# Altium schematic symbol library kmilo17pet-LT_OpAmp_LT1000.SchLib: 2280 symbols (part 17 of 79)
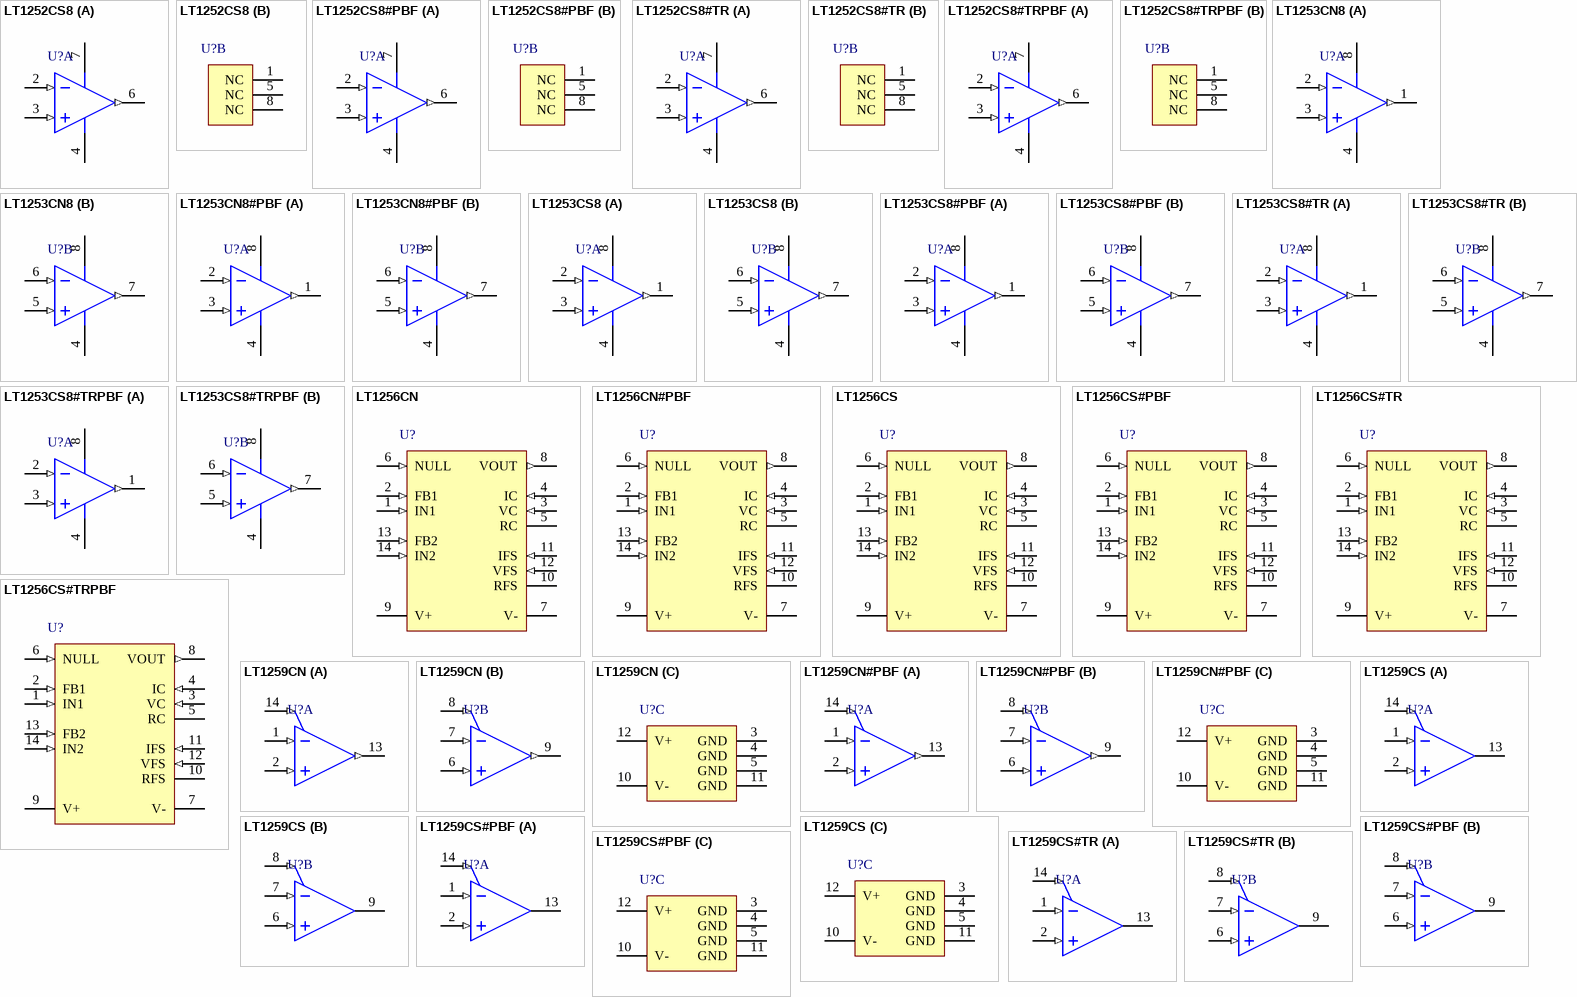
[diagram p121: symbols LT1252CS8 to LT1259CS#TR]

## LT1252CS8#TRPBF
designator U?
Single Channel, High voltage Video Operational Amplifier, 250 MHz Typical GBW, 250 V/us Typical SR, 4 to 28 V, 8-Pin SOIC (S8-8), Commercial, Pb-Free, Reel; Linear Technology Part Number: LT1252; Manufacturer: Linear Technology; PartNumber: LT1252CS8#TRPBF; Channels (#): 1; GBW (MHz) Typical: 250; Is (mA) Typical: 8.5; Vos (mV) Typical: 5; Vs Max (V): 28; Vs Min (V): 4; DatasheetVersion: Rev. A; PackageVersion: Rev G; PackageReference: LT-S8-8; PackageDescription: 8-Pin Plastic Small Outline, Body 4.9 x 3.9 mm, Pitch 1.27 mm; Supplier 1: Digi-Key; Supplier Part Number 1: LT1252CS8#TRPBF-ND; Packing: Reel; RoHS: Pb-Free; SR (V/us) Typical: 250; Type: CFA; Mounting Technology: Surface Mount; ComponentLink1Description: Manufacturer URL; ComponentLink1URL: http://www.linear.com/; ComponentLink2Description: Datasheet; ComponentLink2URL: http://cds.linear.com/docs/en/datasheet/lt1252.pdf; ComponentLink3Description: Package Specification; ComponentLink3URL: http://cds.linear.com/docs/en/packaging/05081610_G_SO8.pdf
footprint LT-S8-8_N (SOIC, 8-Leads, Body 4.9x3.9mm, Pitch 1.27mm, IPC Medium Density)
footprint LT-S8-8_L (SOIC, 8-Leads, Body 4.9x3.9mm, Pitch 1.27mm, IPC High Density)
footprint LT-S8-8_M (SOIC, 8-Leads, Body 4.9x3.9mm, Pitch 1.27mm, IPC Low Density)
part A pins: 2 -IN (in), 3 +IN (in), 4 V- (power), 6 OUT (out), 7 V+ (power)
part B pins: 1 NC (power), 5 NC (power), 8 NC (power)

## LT1253CN8
designator U?
Dual Channel, High voltage Video Operational Amplifier, 250 MHz Typical GBW, 250 V/us Typical SR, 4 to 28 V, 8-Pin DIP (N8-8), Commercial; Linear Technology Part Number: LT1253; Manufacturer: Linear Technology; PartNumber: LT1253CN8; Channels (#): 2; GBW (MHz) Typical: 250; Is (mA) Typical: 6; Vos (mV) Typical: 5; Vs Max (V): 28; Vs Min (V): 4; DatasheetVersion: Rev. 0; PackageVersion: Rev I; PackageReference: LT-N8-8; PackageDescription: 8-Lead PDIP, Body 10.16 x 6.48 mm, Pitch 2.54 mm; Supplier 1: Digi-Key; Supplier Part Number 1: LT1253CN8-ND; SR (V/us) Typical: 250; Type: CFA; Mounting Technology: Surface Mount; ComponentLink1Description: Manufacturer URL; ComponentLink1URL: http://www.linear.com/; ComponentLink2Description: Datasheet; ComponentLink2URL: http://cds.linear.com/docs/en/datasheet/lt1253.pdf; ComponentLink3Description: Package Specification; ComponentLink3URL: http://cds.linear.com/docs/en/packaging/05081510_I_N8.pdf
footprint LT-N8-8 (DIP, 8-Leads, Body 10.16x6.48mm, Pitch 2.54mm)
pins on every part: 4 V- (power), 8 V+ (power)
part A pins: 1 OUT A (out), 2 -IN A (in), 3 +IN A (in)
part B pins: 5 +IN B (in), 6 -IN B (in), 7 OUT B (out)

## LT1253CN8#PBF
designator U?
Dual Channel, High voltage Video Operational Amplifier, 250 MHz Typical GBW, 250 V/us Typical SR, 4 to 28 V, 8-Pin DIP (N8-8), Commercial, Pb-Free; Linear Technology Part Number: LT1253; Manufacturer: Linear Technology; PartNumber: LT1253CN8#PBF; Channels (#): 2; GBW (MHz) Typical: 250; Is (mA) Typical: 6; Vos (mV) Typical: 5; Vs Max (V): 28; Vs Min (V): 4; DatasheetVersion: Rev. 0; PackageVersion: Rev I; PackageReference: LT-N8-8; PackageDescription: 8-Lead PDIP, Body 10.16 x 6.48 mm, Pitch 2.54 mm; Supplier 1: Digi-Key; Supplier Part Number 1: LT1253CN8#PBF-ND; Supplier 2: Newark; Supplier Part Number 2: 57M3050; RoHS: Pb-Free; SR (V/us) Typical: 250; Type: CFA; Mounting Technology: Through Hole; ComponentLink1Description: Manufacturer URL; ComponentLink1URL: http://www.linear.com/; ComponentLink2Description: Datasheet; ComponentLink2URL: http://cds.linear.com/docs/en/datasheet/lt1253.pdf; ComponentLink3Description: Package Specification; ComponentLink3URL: http://cds.linear.com/docs/en/packaging/05081510_I_N8.pdf
footprint LT-N8-8 (DIP, 8-Leads, Body 10.16x6.48mm, Pitch 2.54mm)
pins on every part: 4 V- (power), 8 V+ (power)
part A pins: 1 OUT A (out), 2 -IN A (in), 3 +IN A (in)
part B pins: 5 +IN B (in), 6 -IN B (in), 7 OUT B (out)

## LT1253CS8
designator U?
Dual Channel, High voltage Video Operational Amplifier, 250 MHz Typical GBW, 250 V/us Typical SR, 4 to 28 V, 8-Pin SOIC (S8-8), Commercial; Linear Technology Part Number: LT1253; Manufacturer: Linear Technology; PartNumber: LT1253CS8; Channels (#): 2; GBW (MHz) Typical: 250; Is (mA) Typical: 6; Vos (mV) Typical: 5; Vs Max (V): 28; Vs Min (V): 4; DatasheetVersion: Rev. 0; PackageVersion: Rev G; PackageReference: LT-S8-8; PackageDescription: 8-Pin Plastic Small Outline, Body 4.9 x 3.9 mm, Pitch 1.27 mm; Supplier 1: Digi-Key; Supplier Part Number 1: LT1253CS8-ND; SR (V/us) Typical: 250; Type: CFA; Mounting Technology: Surface Mount; ComponentLink1Description: Manufacturer URL; ComponentLink1URL: http://www.linear.com/; ComponentLink2Description: Datasheet; ComponentLink2URL: http://cds.linear.com/docs/en/datasheet/lt1253.pdf; ComponentLink3Description: Package Specification; ComponentLink3URL: http://cds.linear.com/docs/en/packaging/05081610_G_SO8.pdf
footprint LT-S8-8_N (SOIC, 8-Leads, Body 4.9x3.9mm, Pitch 1.27mm, IPC Medium Density)
footprint LT-S8-8_L (SOIC, 8-Leads, Body 4.9x3.9mm, Pitch 1.27mm, IPC High Density)
footprint LT-S8-8_M (SOIC, 8-Leads, Body 4.9x3.9mm, Pitch 1.27mm, IPC Low Density)
pins on every part: 4 V- (power), 8 V+ (power)
part A pins: 1 OUT A (out), 2 -IN A (in), 3 +IN A (in)
part B pins: 5 +IN B (in), 6 -IN B (in), 7 OUT B (out)

## LT1253CS8#PBF
designator U?
Dual Channel, High voltage Video Operational Amplifier, 250 MHz Typical GBW, 250 V/us Typical SR, 4 to 28 V, 8-Pin SOIC (S8-8), Commercial, Pb-Free; Linear Technology Part Number: LT1253; Manufacturer: Linear Technology; PartNumber: LT1253CS8#PBF; Channels (#): 2; GBW (MHz) Typical: 250; Is (mA) Typical: 6; Vos (mV) Typical: 5; Vs Max (V): 28; Vs Min (V): 4; DatasheetVersion: Rev. 0; PackageVersion: Rev G; PackageReference: LT-S8-8; PackageDescription: 8-Pin Plastic Small Outline, Body 4.9 x 3.9 mm, Pitch 1.27 mm; Supplier 1: Digi-Key; Supplier Part Number 1: LT1253CS8#PBF-ND; Supplier 2: Farnell; Supplier Part Number 2: 1330629; Supplier 3: Newark; Supplier Part Number 3: 57M3052; RoHS: Pb-Free; SR (V/us) Typical: 250; Type: CFA; Mounting Technology: Surface Mount; ComponentLink1Description: Manufacturer URL; ComponentLink1URL: http://www.linear.com/; ComponentLink2Description: Datasheet; ComponentLink2URL: http://cds.linear.com/docs/en/datasheet/lt1253.pdf; ComponentLink3Description: Package Specification; ComponentLink3URL: http://cds.linear.com/docs/en/packaging/05081610_G_SO8.pdf
footprint LT-S8-8_N (SOIC, 8-Leads, Body 4.9x3.9mm, Pitch 1.27mm, IPC Medium Density)
footprint LT-S8-8_L (SOIC, 8-Leads, Body 4.9x3.9mm, Pitch 1.27mm, IPC High Density)
footprint LT-S8-8_M (SOIC, 8-Leads, Body 4.9x3.9mm, Pitch 1.27mm, IPC Low Density)
pins on every part: 4 V- (power), 8 V+ (power)
part A pins: 1 OUT A (out), 2 -IN A (in), 3 +IN A (in)
part B pins: 5 +IN B (in), 6 -IN B (in), 7 OUT B (out)

## LT1253CS8#TR
designator U?
Dual Channel, High voltage Video Operational Amplifier, 250 MHz Typical GBW, 250 V/us Typical SR, 4 to 28 V, 8-Pin SOIC (S8-8), Commercial, Reel; Linear Technology Part Number: LT1253; Manufacturer: Linear Technology; PartNumber: LT1253CS8#TR; Channels (#): 2; GBW (MHz) Typical: 250; Is (mA) Typical: 6; Vos (mV) Typical: 5; Vs Max (V): 28; Vs Min (V): 4; DatasheetVersion: Rev. 0; PackageVersion: Rev G; PackageReference: LT-S8-8; PackageDescription: 8-Pin Plastic Small Outline, Body 4.9 x 3.9 mm, Pitch 1.27 mm; Supplier 1: Digi-Key; Supplier Part Number 1: LT1253CS8#TR-ND; Packing: Reel; SR (V/us) Typical: 250; Type: CFA; Mounting Technology: Surface Mount; ComponentLink1Description: Manufacturer URL; ComponentLink1URL: http://www.linear.com/; ComponentLink2Description: Datasheet; ComponentLink2URL: http://cds.linear.com/docs/en/datasheet/lt1253.pdf; ComponentLink3Description: Package Specification; ComponentLink3URL: http://cds.linear.com/docs/en/packaging/05081610_G_SO8.pdf
footprint LT-S8-8_N (SOIC, 8-Leads, Body 4.9x3.9mm, Pitch 1.27mm, IPC Medium Density)
footprint LT-S8-8_L (SOIC, 8-Leads, Body 4.9x3.9mm, Pitch 1.27mm, IPC High Density)
footprint LT-S8-8_M (SOIC, 8-Leads, Body 4.9x3.9mm, Pitch 1.27mm, IPC Low Density)
pins on every part: 4 V- (power), 8 V+ (power)
part A pins: 1 OUT A (out), 2 -IN A (in), 3 +IN A (in)
part B pins: 5 +IN B (in), 6 -IN B (in), 7 OUT B (out)

## LT1253CS8#TRPBF
designator U?
Dual Channel, High voltage Video Operational Amplifier, 250 MHz Typical GBW, 250 V/us Typical SR, 4 to 28 V, 8-Pin SOIC (S8-8), Commercial, Pb-Free, Reel; Linear Technology Part Number: LT1253; Manufacturer: Linear Technology; PartNumber: LT1253CS8#TRPBF; Channels (#): 2; GBW (MHz) Typical: 250; Is (mA) Typical: 6; Vos (mV) Typical: 5; Vs Max (V): 28; Vs Min (V): 4; DatasheetVersion: Rev. 0; PackageVersion: Rev G; PackageReference: LT-S8-8; PackageDescription: 8-Pin Plastic Small Outline, Body 4.9 x 3.9 mm, Pitch 1.27 mm; Supplier 1: Digi-Key; Supplier Part Number 1: LT1253CS8#TRPBF-ND; Packing: Reel; RoHS: Pb-Free; SR (V/us) Typical: 250; Type: CFA; Mounting Technology: Surface Mount; ComponentLink1Description: Manufacturer URL; ComponentLink1URL: http://www.linear.com/; ComponentLink2Description: Datasheet; ComponentLink2URL: http://cds.linear.com/docs/en/datasheet/lt1253.pdf; ComponentLink3Description: Package Specification; ComponentLink3URL: http://cds.linear.com/docs/en/packaging/05081610_G_SO8.pdf
footprint LT-S8-8_N (SOIC, 8-Leads, Body 4.9x3.9mm, Pitch 1.27mm, IPC Medium Density)
footprint LT-S8-8_L (SOIC, 8-Leads, Body 4.9x3.9mm, Pitch 1.27mm, IPC High Density)
footprint LT-S8-8_M (SOIC, 8-Leads, Body 4.9x3.9mm, Pitch 1.27mm, IPC Low Density)
pins on every part: 4 V- (power), 8 V+ (power)
part A pins: 1 OUT A (out), 2 -IN A (in), 3 +IN A (in)
part B pins: 5 +IN B (in), 6 -IN B (in), 7 OUT B (out)

## LT1256CN
designator U?
Single Channel, Video Fader Control Operational Amplifier, 40 MHz Typical GBW, 300 V/us Typical SR, 5 to 36 V, 14-Pin DIP (N-14), Commerical; Linear Technology Part Number: LT1256; Manufacturer: Linear Technology; PartNumber: LT1256CN; Channels (#): 1; GBW (MHz) Typical: 40; Is (mA) Typical: 13.5; SR (V/us) Typical: 300; Vos (mV) Typical: 2; Vs Max (V): 36; Vs Min (V): 5; DatasheetVersion: Rev. A; PackageVersion: Rev I; PackageReference: LT-N-14; PackageDescription: 14-Lead PDIP, Body 19.558 x 6.477 mm, Pitch 2.54 mm; Supplier 1: Digi-Key; Supplier Part Number 1: LT1256CN-ND; Type: CFA; Mounting Technology: Through Hole; ComponentLink1Description: Manufacturer URL; ComponentLink1URL: http://www.linear.com/; ComponentLink2Description: Datasheet; ComponentLink2URL: http://cds.linear.com/docs/en/datasheet/12516fa.pdf; ComponentLink3Description: Package Specification; ComponentLink3URL: http://cds.linear.com/docs/en/packaging/05081510_I_N14.pdf
footprint LT-N-14 (DIP, 14-Leads, Body 19.558x6.477mm, Pitch 2.54mm)
pins: 1 IN1 (in), 2 FB1 (in), 3 VC (in), 4 IC (in), 5 RC, 6 NULL (in), 7 V- (power), 8 VOUT (out), 9 V+ (power), 10 RFS, 11 IFS (in), 12 VFS (in), 13 FB2 (in), 14 IN2 (in)

## LT1256CN#PBF
designator U?
Single Channel, Video Fader Control Operational Amplifier, 40 MHz Typical GBW, 300 V/us Typical SR, 5 to 36 V, 14-Pin DIP (N-14), Commerical, Pb-Free; Linear Technology Part Number: LT1256; Manufacturer: Linear Technology; PartNumber: LT1256CN#PBF; Channels (#): 1; GBW (MHz) Typical: 40; Is (mA) Typical: 13.5; SR (V/us) Typical: 300; Vos (mV) Typical: 2; Vs Max (V): 36; Vs Min (V): 5; DatasheetVersion: Rev. A; PackageVersion: Rev I; PackageReference: LT-N-14; PackageDescription: 14-Lead PDIP, Body 19.558 x 6.477 mm, Pitch 2.54 mm; Supplier 1: Digi-Key; Supplier Part Number 1: LT1256CN#PBF-ND; RoHS: Pb-Free; Type: CFA; Mounting Technology: Through Hole; ComponentLink1Description: Manufacturer URL; ComponentLink1URL: http://www.linear.com/; ComponentLink2Description: Datasheet; ComponentLink2URL: http://cds.linear.com/docs/en/datasheet/12516fa.pdf; ComponentLink3Description: Package Specification; ComponentLink3URL: http://cds.linear.com/docs/en/packaging/05081510_I_N14.pdf
footprint LT-N-14 (DIP, 14-Leads, Body 19.558x6.477mm, Pitch 2.54mm)
pins: 1 IN1 (in), 2 FB1 (in), 3 VC (in), 4 IC (in), 5 RC, 6 NULL (in), 7 V- (power), 8 VOUT (out), 9 V+ (power), 10 RFS, 11 IFS (in), 12 VFS (in), 13 FB2 (in), 14 IN2 (in)

## LT1256CS
designator U?
Single Channel, Video Fader Control Operational Amplifier, 40 MHz Typical GBW, 300 V/us Typical SR, 5 to 36 V, 14-Pin SOIC (S-14), Commerical; Linear Technology Part Number: LT1256; Manufacturer: Linear Technology; PartNumber: LT1256CS; Channels (#): 1; GBW (MHz) Typical: 40; Is (mA) Typical: 13.5; SR (V/us) Typical: 300; Vos (mV) Typical: 2; Vs Max (V): 36; Vs Min (V): 5; DatasheetVersion: Rev. A; PackageVersion: Rev G; PackageReference: LT-S-14; PackageDescription: 14-Lead Plastic Small Outline, Body 8.65 x 3.90 mm, Pitch 1.27 mm; Supplier 1: Digi-Key; Supplier Part Number 1: LT1256CS-ND; Supplier 2: Newark; Supplier Part Number 2: 57M3063; Type: CFA; Mounting Technology: Surface Mount; ComponentLink1Description: Manufacturer URL; ComponentLink1URL: http://www.linear.com/; ComponentLink2Description: Datasheet; ComponentLink2URL: http://cds.linear.com/docs/en/datasheet/12516fa.pdf; ComponentLink3Description: Package Specification; ComponentLink3URL: http://cds.linear.com/docs/en/packaging/05081610_G_S14.pdf
footprint LT-S-14_N (SOIC, 14-Leads, Body 8.65x3.90mm, Pitch 1.27mm, IPC Medium Density)
footprint LT-S-14_L (SOIC, 14-Leads, Body 8.65x3.90mm, Pitch 1.27mm, IPC High Density)
footprint LT-S-14_M (SOIC, 14-Leads, Body 8.65x3.90mm, Pitch 1.27mm, IPC Low Density)
pins: 1 IN1 (in) "first noninverting input", 2 FB1 (in) "first inverting input", 3 VC (in) "control voltage input", 4 IC (in) "control current input", 5 RC "control resistor, RC", 6 NULL (in) "null input", 7 V- (power) "negative supply", 8 VOUT (out) "output", 9 V+ (power) "positive supply", 10 RFS "full scale resistor, RFS", 11 IFS (in) "full scale current input", 12 VFS (in) "full scale voltage input", 13 FB2 (in) "second inverting input", 14 IN2 (in) "second noninverting input"

## LT1256CS#PBF
designator U?
Single Channel, Video Fader Control Operational Amplifier, 40 MHz Typical GBW, 300 V/us Typical SR, 5 to 36 V, 14-Pin SOIC (S-14), Commerical, Pb-Free; Linear Technology Part Number: LT1256; Manufacturer: Linear Technology; PartNumber: LT1256CS#PBF; Channels (#): 1; GBW (MHz) Typical: 40; Is (mA) Typical: 13.5; SR (V/us) Typical: 300; Vos (mV) Typical: 2; Vs Max (V): 36; Vs Min (V): 5; DatasheetVersion: Rev. A; PackageVersion: Rev G; PackageReference: LT-S-14; PackageDescription: 14-Lead Plastic Small Outline, Body 8.65 x 3.90 mm, Pitch 1.27 mm; Supplier 1: Digi-Key; Supplier Part Number 1: LT1256CS#PBF-ND; Supplier 2: Farnell; Supplier Part Number 2: 2238149; Supplier 3: Newark; Supplier Part Number 3: 57M3064; RoHS: Pb-Free; Type: CFA; Mounting Technology: Surface Mount; ComponentLink1Description: Manufacturer URL; ComponentLink1URL: http://www.linear.com/; ComponentLink2Description: Datasheet; ComponentLink2URL: http://cds.linear.com/docs/en/datasheet/12516fa.pdf; ComponentLink3Description: Package Specification; ComponentLink3URL: http://cds.linear.com/docs/en/packaging/05081610_G_S14.pdf
footprint LT-S-14_N (SOIC, 14-Leads, Body 8.65x3.90mm, Pitch 1.27mm, IPC Medium Density)
footprint LT-S-14_L (SOIC, 14-Leads, Body 8.65x3.90mm, Pitch 1.27mm, IPC High Density)
footprint LT-S-14_M (SOIC, 14-Leads, Body 8.65x3.90mm, Pitch 1.27mm, IPC Low Density)
pins: 1 IN1 (in) "first noninverting input", 2 FB1 (in) "first inverting input", 3 VC (in) "control voltage input", 4 IC (in) "control current input", 5 RC "control resistor, RC", 6 NULL (in) "null input", 7 V- (power) "negative supply", 8 VOUT (out) "output", 9 V+ (power) "positive supply", 10 RFS "full scale resistor, RFS", 11 IFS (in) "full scale current input", 12 VFS (in) "full scale voltage input", 13 FB2 (in) "second inverting input", 14 IN2 (in) "second noninverting input"

## LT1256CS#TR
designator U?
Single Channel, Video Fader Control Operational Amplifier, 40 MHz Typical GBW, 300 V/us Typical SR, 5 to 36 V, 14-Pin SOIC (S-14), Commerical, Reel; Linear Technology Part Number: LT1256; Manufacturer: Linear Technology; PartNumber: LT1256CS#TR; Channels (#): 1; GBW (MHz) Typical: 40; Is (mA) Typical: 13.5; SR (V/us) Typical: 300; Vos (mV) Typical: 2; Vs Max (V): 36; Vs Min (V): 5; DatasheetVersion: Rev. A; PackageVersion: Rev G; PackageReference: LT-S-14; PackageDescription: 14-Lead Plastic Small Outline, Body 8.65 x 3.90 mm, Pitch 1.27 mm; Supplier 1: Digi-Key; Supplier Part Number 1: LT1256CS#TR-ND; Packing: Reel; Type: CFA; Mounting Technology: Surface Mount; ComponentLink1Description: Manufacturer URL; ComponentLink1URL: http://www.linear.com/; ComponentLink2Description: Datasheet; ComponentLink2URL: http://cds.linear.com/docs/en/datasheet/12516fa.pdf; ComponentLink3Description: Package Specification; ComponentLink3URL: http://cds.linear.com/docs/en/packaging/05081610_G_S14.pdf
footprint LT-S-14_N (SOIC, 14-Leads, Body 8.65x3.90mm, Pitch 1.27mm, IPC Medium Density)
footprint LT-S-14_L (SOIC, 14-Leads, Body 8.65x3.90mm, Pitch 1.27mm, IPC High Density)
footprint LT-S-14_M (SOIC, 14-Leads, Body 8.65x3.90mm, Pitch 1.27mm, IPC Low Density)
pins: 1 IN1 (in) "first noninverting input", 2 FB1 (in) "first inverting input", 3 VC (in) "control voltage input", 4 IC (in) "control current input", 5 RC "control resistor, RC", 6 NULL (in) "null input", 7 V- (power) "negative supply", 8 VOUT (out) "output", 9 V+ (power) "positive supply", 10 RFS "full scale resistor, RFS", 11 IFS (in) "full scale current input", 12 VFS (in) "full scale voltage input", 13 FB2 (in) "second inverting input", 14 IN2 (in) "second noninverting input"

## LT1256CS#TRPBF
designator U?
Single Channel, Video Fader Control Operational Amplifier, 40 MHz Typical GBW, 300 V/us Typical SR, 5 to 36 V, 14-Pin SOIC (S-14), Commerical, Pb-Free, Reel; Linear Technology Part Number: LT1256; Manufacturer: Linear Technology; PartNumber: LT1256CS#TRPBF; Channels (#): 1; GBW (MHz) Typical: 40; Is (mA) Typical: 13.5; SR (V/us) Typical: 300; Vos (mV) Typical: 2; Vs Max (V): 36; Vs Min (V): 5; DatasheetVersion: Rev. A; PackageVersion: Rev G; PackageReference: LT-S-14; PackageDescription: 14-Lead Plastic Small Outline, Body 8.65 x 3.90 mm, Pitch 1.27 mm; Supplier 1: Digi-Key; Supplier Part Number 1: LT1256CS#TRPBF-ND; Packing: Reel; RoHS: Pb-Free; Type: CFA; Mounting Technology: Surface Mount; ComponentLink1Description: Manufacturer URL; ComponentLink1URL: http://www.linear.com/; ComponentLink2Description: Datasheet; ComponentLink2URL: http://cds.linear.com/docs/en/datasheet/12516fa.pdf; ComponentLink3Description: Package Specification; ComponentLink3URL: http://cds.linear.com/docs/en/packaging/05081610_G_S14.pdf
footprint LT-S-14_N (SOIC, 14-Leads, Body 8.65x3.90mm, Pitch 1.27mm, IPC Medium Density)
footprint LT-S-14_L (SOIC, 14-Leads, Body 8.65x3.90mm, Pitch 1.27mm, IPC High Density)
footprint LT-S-14_M (SOIC, 14-Leads, Body 8.65x3.90mm, Pitch 1.27mm, IPC Low Density)
pins: 1 IN1 (in) "first noninverting input", 2 FB1 (in) "first inverting input", 3 VC (in) "control voltage input", 4 IC (in) "control current input", 5 RC "control resistor, RC", 6 NULL (in) "null input", 7 V- (power) "negative supply", 8 VOUT (out) "output", 9 V+ (power) "positive supply", 10 RFS "full scale resistor, RFS", 11 IFS (in) "full scale current input", 12 VFS (in) "full scale voltage input", 13 FB2 (in) "second inverting input", 14 IN2 (in) "second noninverting input"

## LT1259CN
designator U?
Dual Channel, High Voltage CFA Operational Amplifier, 130 MHz Typical GBW, 1600 V/us Typical SR, 4 to 36 V, 14-Pin DIP (N-14), Commerical; Linear Technology Part Number: LT1259; Manufacturer: Linear Technology; PartNumber: LT1259CN; Channels (#): 2; GBW (MHz) Typical: 130; Is (mA) Typical: 5; SR (V/us) Typical: 1600; Vs Max (V): 36; Vs Min (V): 4; DatasheetVersion: Rev. A; PackageVersion: Rev I; PackageReference: LT-N-14; PackageDescription: 14-Lead PDIP, Body 19.558 x 6.477 mm, Pitch 2.54 mm; Type: CFA; Vos (mV) Typical: 2; Mounting Technology: Surface Mount; ComponentLink1Description: Manufacturer URL; ComponentLink1URL: http://www.linear.com/; ComponentLink2Description: Datasheet; ComponentLink2URL: http://cds.linear.com/docs/en/datasheet/12596fas.pdf; ComponentLink3Description: Package Specification; ComponentLink3URL: http://cds.linear.com/docs/en/packaging/05081510_I_N14.pdf
footprint LT-N-14 (DIP, 14-Leads, Body 19.558x6.477mm, Pitch 2.54mm)
part A pins: 1 -IN A (in), 2 +IN A (in), 13 OUT A (out), 14 ~{EN} A (in)
part B pins: 6 +IN B (in), 7 -IN B (in), 8 ~{EN} B (in), 9 OUT B (out)
part C pins: 3 GND (power), 4 GND (power), 5 GND (power), 10 V- (power), 11 GND (power), 12 V+ (power)

## LT1259CN#PBF
designator U?
Dual Channel, High Voltage CFA Operational Amplifier, 130 MHz Typical GBW, 1600 V/us Typical SR, 4 to 36 V, 14-Pin DIP (N-14), Commerical, Pb-Free; Linear Technology Part Number: LT1259; Manufacturer: Linear Technology; PartNumber: LT1259CN#PBF; Channels (#): 2; GBW (MHz) Typical: 130; Is (mA) Typical: 5; SR (V/us) Typical: 1600; Vs Max (V): 36; Vs Min (V): 4; DatasheetVersion: Rev. A; PackageVersion: Rev I; PackageReference: LT-N-14; PackageDescription: 14-Lead PDIP, Body 19.558 x 6.477 mm, Pitch 2.54 mm; Supplier 1: Digi-Key; Supplier Part Number 1: LT1259CN#PBF-ND; Supplier 2: Farnell; Supplier Part Number 2: 1136639; Supplier 3: Newark; Supplier Part Number 3: 57M3068; RoHS: Pb-Free; Type: CFA; Vos (mV) Typical: 2; Mounting Technology: Through Hole; ComponentLink1Description: Manufacturer URL; ComponentLink1URL: http://www.linear.com/; ComponentLink2Description: Datasheet; ComponentLink2URL: http://cds.linear.com/docs/en/datasheet/12596fas.pdf; ComponentLink3Description: Package Specification; ComponentLink3URL: http://cds.linear.com/docs/en/packaging/05081510_I_N14.pdf
footprint LT-N-14 (DIP, 14-Leads, Body 19.558x6.477mm, Pitch 2.54mm)
part A pins: 1 -IN A (in), 2 +IN A (in), 13 OUT A (out), 14 ~{EN} A (in)
part B pins: 6 +IN B (in), 7 -IN B (in), 8 ~{EN} B (in), 9 OUT B (out)
part C pins: 3 GND (power), 4 GND (power), 5 GND (power), 10 V- (power), 11 GND (power), 12 V+ (power)

## LT1259CS
designator U?
Dual Channel, High Voltage CFA Operational Amplifier, 130 MHz Typical GBW, 1600 V/us Typical SR, 4 to 36 V, 14-Pin SOIC (S-14), Commerical; Linear Technology Part Number: LT1259; Manufacturer: Linear Technology; PartNumber: LT1259CS; Channels (#): 2; GBW (MHz) Typical: 130; Is (mA) Typical: 5; SR (V/us) Typical: 1600; Vs Max (V): 36; Vs Min (V): 4; DatasheetVersion: Rev. A; PackageVersion: Rev G; PackageReference: LT-S-14; PackageDescription: 14-Lead Plastic Small Outline, Body 8.65 x 3.90 mm, Pitch 1.27 mm; Supplier 1: Digi-Key; Supplier Part Number 1: LT1259CS-ND; Type: CFA; Vos (mV) Typical: 2; Mounting Technology: Surface Mount; ComponentLink1Description: Manufacturer URL; ComponentLink1URL: http://www.linear.com/; ComponentLink2Description: Datasheet; ComponentLink2URL: http://cds.linear.com/docs/en/datasheet/12596fas.pdf; ComponentLink3Description: Package Specification; ComponentLink3URL: http://cds.linear.com/docs/en/packaging/05081610_G_S14.pdf
footprint LT-S-14_N (SOIC, 14-Leads, Body 8.65x3.90mm, Pitch 1.27mm, IPC Medium Density)
footprint LT-S-14_L (SOIC, 14-Leads, Body 8.65x3.90mm, Pitch 1.27mm, IPC High Density)
footprint LT-S-14_M (SOIC, 14-Leads, Body 8.65x3.90mm, Pitch 1.27mm, IPC Low Density)
part A pins: 1 -IN A (in), 2 +IN A (in), 13 OUT A (hiz), 14 ~{EN} A (in)
part B pins: 6 +IN B (in), 7 -IN B (in), 8 ~{EN} B (in), 9 OUT B (hiz)
part C pins: 3 GND (power), 4 GND (power), 5 GND (power), 10 V- (power), 11 GND (power), 12 V+ (power)

## LT1259CS#PBF
designator U?
Dual Channel, High Voltage CFA Operational Amplifier, 130 MHz Typical GBW, 1600 V/us Typical SR, 4 to 36 V, 14-Pin SOIC (S-14), Commerical, Pb-Free; Linear Technology Part Number: LT1259; Manufacturer: Linear Technology; PartNumber: LT1259CS#PBF; Channels (#): 2; GBW (MHz) Typical: 130; Is (mA) Typical: 5; SR (V/us) Typical: 1600; Vs Max (V): 36; Vs Min (V): 4; DatasheetVersion: Rev. A; PackageVersion: Rev G; PackageReference: LT-S-14; PackageDescription: 14-Lead Plastic Small Outline, Body 8.65 x 3.90 mm, Pitch 1.27 mm; Supplier 1: Digi-Key; Supplier Part Number 1: LT1259CS#PBF-ND; RoHS: Pb-Free; Type: CFA; Vos (mV) Typical: 2; Mounting Technology: Surface Mount; ComponentLink1Description: Manufacturer URL; ComponentLink1URL: http://www.linear.com/; ComponentLink2Description: Datasheet; ComponentLink2URL: http://cds.linear.com/docs/en/datasheet/12596fas.pdf; ComponentLink3Description: Package Specification; ComponentLink3URL: http://cds.linear.com/docs/en/packaging/05081610_G_S14.pdf
footprint LT-S-14_N (SOIC, 14-Leads, Body 8.65x3.90mm, Pitch 1.27mm, IPC Medium Density)
footprint LT-S-14_L (SOIC, 14-Leads, Body 8.65x3.90mm, Pitch 1.27mm, IPC High Density)
footprint LT-S-14_M (SOIC, 14-Leads, Body 8.65x3.90mm, Pitch 1.27mm, IPC Low Density)
part A pins: 1 -IN A (in), 2 +IN A (in), 13 OUT A (hiz), 14 ~{EN} A (in)
part B pins: 6 +IN B (in), 7 -IN B (in), 8 ~{EN} B (in), 9 OUT B (hiz)
part C pins: 3 GND (power), 4 GND (power), 5 GND (power), 10 V- (power), 11 GND (power), 12 V+ (power)

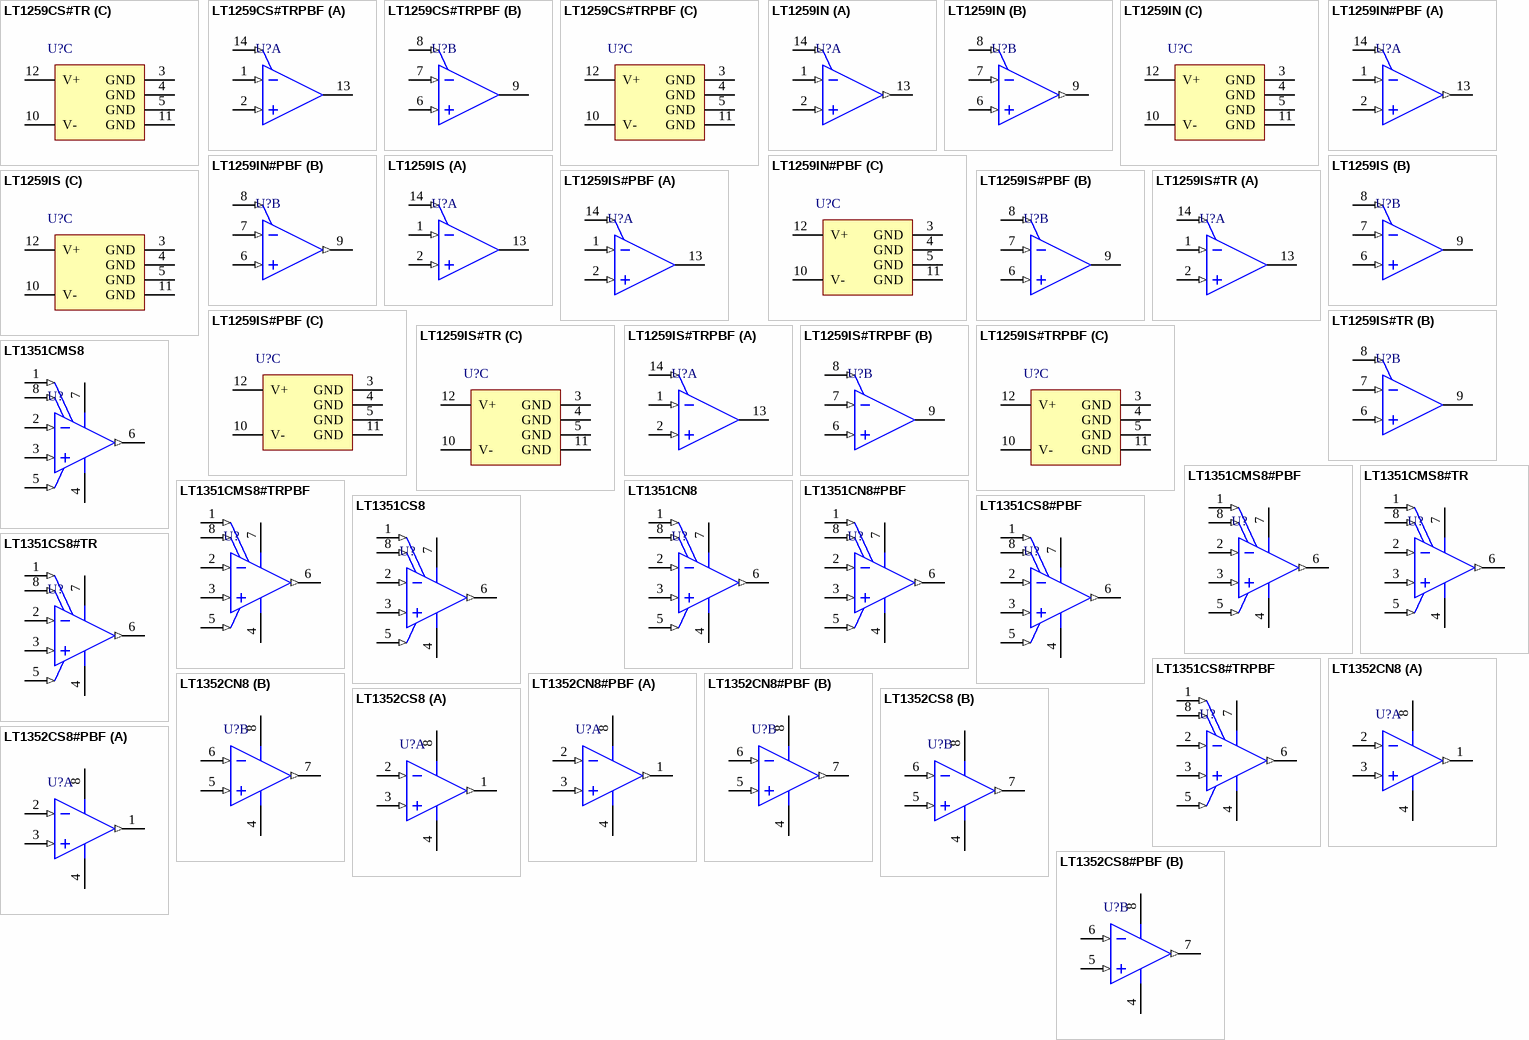
[diagram p24: symbols LT1259CS#TR to LT1352CS8#PBF]

## LT1259CS#TR
designator U?
Dual Channel, High Voltage CFA Operational Amplifier, 130 MHz Typical GBW, 1600 V/us Typical SR, 4 to 36 V, 14-Pin SOIC (S-14), Commerical, Reel; Linear Technology Part Number: LT1259; Manufacturer: Linear Technology; PartNumber: LT1259CS#TR; Channels (#): 2; GBW (MHz) Typical: 130; Is (mA) Typical: 5; SR (V/us) Typical: 1600; Vs Max (V): 36; Vs Min (V): 4; DatasheetVersion: Rev. A; PackageVersion: Rev G; PackageReference: LT-S-14; PackageDescription: 14-Lead Plastic Small Outline, Body 8.65 x 3.90 mm, Pitch 1.27 mm; Supplier 1: Digi-Key; Supplier Part Number 1: LT1259CS#TR-ND; Packing: Reel; Type: CFA; Vos (mV) Typical: 2; Mounting Technology: Surface Mount; ComponentLink1Description: Manufacturer URL; ComponentLink1URL: http://www.linear.com/; ComponentLink2Description: Datasheet; ComponentLink2URL: http://cds.linear.com/docs/en/datasheet/12596fas.pdf; ComponentLink3Description: Package Specification; ComponentLink3URL: http://cds.linear.com/docs/en/packaging/05081610_G_S14.pdf
footprint LT-S-14_N (SOIC, 14-Leads, Body 8.65x3.90mm, Pitch 1.27mm, IPC Medium Density)
footprint LT-S-14_L (SOIC, 14-Leads, Body 8.65x3.90mm, Pitch 1.27mm, IPC High Density)
footprint LT-S-14_M (SOIC, 14-Leads, Body 8.65x3.90mm, Pitch 1.27mm, IPC Low Density)
part A pins: 1 -IN A (in), 2 +IN A (in), 13 OUT A (hiz), 14 ~{EN} A (in)
part B pins: 6 +IN B (in), 7 -IN B (in), 8 ~{EN} B (in), 9 OUT B (hiz)
part C pins: 3 GND (power), 4 GND (power), 5 GND (power), 10 V- (power), 11 GND (power), 12 V+ (power)

## LT1259CS#TRPBF
designator U?
Dual Channel, High Voltage CFA Operational Amplifier, 130 MHz Typical GBW, 1600 V/us Typical SR, 4 to 36 V, 14-Pin SOIC (S-14), Commerical, Pb-Free, Reel; Linear Technology Part Number: LT1259; Manufacturer: Linear Technology; PartNumber: LT1259CS#TRPBF; Channels (#): 2; GBW (MHz) Typical: 130; Is (mA) Typical: 5; SR (V/us) Typical: 1600; Vs Max (V): 36; Vs Min (V): 4; DatasheetVersion: Rev. A; PackageVersion: Rev G; PackageReference: LT-S-14; PackageDescription: 14-Lead Plastic Small Outline, Body 8.65 x 3.90 mm, Pitch 1.27 mm; Supplier 1: Digi-Key; Supplier Part Number 1: LT1259CS#TRPBF-ND; Packing: Reel; RoHS: Pb-Free; Type: CFA; Vos (mV) Typical: 2; Mounting Technology: Surface Mount; ComponentLink1Description: Manufacturer URL; ComponentLink1URL: http://www.linear.com/; ComponentLink2Description: Datasheet; ComponentLink2URL: http://cds.linear.com/docs/en/datasheet/12596fas.pdf; ComponentLink3Description: Package Specification; ComponentLink3URL: http://cds.linear.com/docs/en/packaging/05081610_G_S14.pdf
footprint LT-S-14_N (SOIC, 14-Leads, Body 8.65x3.90mm, Pitch 1.27mm, IPC Medium Density)
footprint LT-S-14_L (SOIC, 14-Leads, Body 8.65x3.90mm, Pitch 1.27mm, IPC High Density)
footprint LT-S-14_M (SOIC, 14-Leads, Body 8.65x3.90mm, Pitch 1.27mm, IPC Low Density)
part A pins: 1 -IN A (in), 2 +IN A (in), 13 OUT A (hiz), 14 ~{EN} A (in)
part B pins: 6 +IN B (in), 7 -IN B (in), 8 ~{EN} B (in), 9 OUT B (hiz)
part C pins: 3 GND (power), 4 GND (power), 5 GND (power), 10 V- (power), 11 GND (power), 12 V+ (power)

## LT1259IN
designator U?
Dual Channel, High Voltage CFA Operational Amplifier, 130 MHz Typical GBW, 1600 V/us Typical SR, 4 to 36 V, 14-Pin DIP (N-14), Industrial; Linear Technology Part Number: LT1259; Manufacturer: Linear Technology; PartNumber: LT1259IN; Channels (#): 2; GBW (MHz) Typical: 130; Is (mA) Typical: 5; SR (V/us) Typical: 1600; Vs Max (V): 36; Vs Min (V): 4; DatasheetVersion: Rev. A; PackageVersion: Rev I; PackageReference: LT-N-14; PackageDescription: 14-Lead PDIP, Body 19.558 x 6.477 mm, Pitch 2.54 mm; Supplier 1: Digi-Key; Supplier Part Number 1: LT1259IN-ND; Supplier 2: Newark; Supplier Part Number 2: 57M3073; Type: CFA; Vos (mV) Typical: 2; Mounting Technology: Surface Mount; ComponentLink1Description: Manufacturer URL; ComponentLink1URL: http://www.linear.com/; ComponentLink2Description: Datasheet; ComponentLink2URL: http://cds.linear.com/docs/en/datasheet/12596fas.pdf; ComponentLink3Description: Package Specification; ComponentLink3URL: http://cds.linear.com/docs/en/packaging/05081510_I_N14.pdf
footprint LT-N-14 (DIP, 14-Leads, Body 19.558x6.477mm, Pitch 2.54mm)
part A pins: 1 -IN A (in), 2 +IN A (in), 13 OUT A (out), 14 ~{EN} A (in)
part B pins: 6 +IN B (in), 7 -IN B (in), 8 ~{EN} B (in), 9 OUT B (out)
part C pins: 3 GND (power), 4 GND (power), 5 GND (power), 10 V- (power), 11 GND (power), 12 V+ (power)

## LT1259IN#PBF
designator U?
Dual Channel, High Voltage CFA Operational Amplifier, 130 MHz Typical GBW, 1600 V/us Typical SR, 4 to 36 V, 14-Pin DIP (N-14), Industrial, Pb-Free; Linear Technology Part Number: LT1259; Manufacturer: Linear Technology; PartNumber: LT1259IN#PBF; Channels (#): 2; GBW (MHz) Typical: 130; Is (mA) Typical: 5; SR (V/us) Typical: 1600; Vs Max (V): 36; Vs Min (V): 4; DatasheetVersion: Rev. A; PackageVersion: Rev I; PackageReference: LT-N-14; PackageDescription: 14-Lead PDIP, Body 19.558 x 6.477 mm, Pitch 2.54 mm; Supplier 1: Digi-Key; Supplier Part Number 1: LT1259IN#PBF-ND; RoHS: Pb-Free; Type: CFA; Vos (mV) Typical: 2; Mounting Technology: Through Hole; ComponentLink1Description: Manufacturer URL; ComponentLink1URL: http://www.linear.com/; ComponentLink2Description: Datasheet; ComponentLink2URL: http://cds.linear.com/docs/en/datasheet/12596fas.pdf; ComponentLink3Description: Package Specification; ComponentLink3URL: http://cds.linear.com/docs/en/packaging/05081510_I_N14.pdf
footprint LT-N-14 (DIP, 14-Leads, Body 19.558x6.477mm, Pitch 2.54mm)
part A pins: 1 -IN A (in), 2 +IN A (in), 13 OUT A (out), 14 ~{EN} A (in)
part B pins: 6 +IN B (in), 7 -IN B (in), 8 ~{EN} B (in), 9 OUT B (out)
part C pins: 3 GND (power), 4 GND (power), 5 GND (power), 10 V- (power), 11 GND (power), 12 V+ (power)

## LT1259IS
designator U?
Dual Channel, High Voltage CFA Operational Amplifier, 130 MHz Typical GBW, 1600 V/us Typical SR, 4 to 36 V, 14-Pin SOIC (S-14), Industrial; Linear Technology Part Number: LT1259; Manufacturer: Linear Technology; PartNumber: LT1259IS; Channels (#): 2; GBW (MHz) Typical: 130; Is (mA) Typical: 5; SR (V/us) Typical: 1600; Vs Max (V): 36; Vs Min (V): 4; DatasheetVersion: Rev. A; PackageVersion: Rev G; PackageReference: LT-S-14; PackageDescription: 14-Lead Plastic Small Outline, Body 8.65 x 3.90 mm, Pitch 1.27 mm; Supplier 1: Digi-Key; Supplier Part Number 1: LT1259IS-ND; Type: CFA; Vos (mV) Typical: 2; Mounting Technology: Surface Mount; ComponentLink1Description: Manufacturer URL; ComponentLink1URL: http://www.linear.com/; ComponentLink2Description: Datasheet; ComponentLink2URL: http://cds.linear.com/docs/en/datasheet/12596fas.pdf; ComponentLink3Description: Package Specification; ComponentLink3URL: http://cds.linear.com/docs/en/packaging/05081610_G_S14.pdf
footprint LT-S-14_N (SOIC, 14-Leads, Body 8.65x3.90mm, Pitch 1.27mm, IPC Medium Density)
footprint LT-S-14_L (SOIC, 14-Leads, Body 8.65x3.90mm, Pitch 1.27mm, IPC High Density)
footprint LT-S-14_M (SOIC, 14-Leads, Body 8.65x3.90mm, Pitch 1.27mm, IPC Low Density)
part A pins: 1 -IN A (in), 2 +IN A (in), 13 OUT A (hiz), 14 ~{EN} A (in)
part B pins: 6 +IN B (in), 7 -IN B (in), 8 ~{EN} B (in), 9 OUT B (hiz)
part C pins: 3 GND (power), 4 GND (power), 5 GND (power), 10 V- (power), 11 GND (power), 12 V+ (power)

## LT1259IS#PBF
designator U?
Dual Channel, High Voltage CFA Operational Amplifier, 130 MHz Typical GBW, 1600 V/us Typical SR, 4 to 36 V, 14-Pin SOIC (S-14), Industrial, Pb-Free; Linear Technology Part Number: LT1259; Manufacturer: Linear Technology; PartNumber: LT1259IS#PBF; Channels (#): 2; GBW (MHz) Typical: 130; Is (mA) Typical: 5; SR (V/us) Typical: 1600; Vs Max (V): 36; Vs Min (V): 4; DatasheetVersion: Rev. A; PackageVersion: Rev G; PackageReference: LT-S-14; PackageDescription: 14-Lead Plastic Small Outline, Body 8.65 x 3.90 mm, Pitch 1.27 mm; Supplier 1: Digi-Key; Supplier Part Number 1: LT1259IS#PBF-ND; RoHS: Pb-Free; Type: CFA; Vos (mV) Typical: 2; Mounting Technology: Surface Mount; ComponentLink1Description: Manufacturer URL; ComponentLink1URL: http://www.linear.com/; ComponentLink2Description: Datasheet; ComponentLink2URL: http://cds.linear.com/docs/en/datasheet/12596fas.pdf; ComponentLink3Description: Package Specification; ComponentLink3URL: http://cds.linear.com/docs/en/packaging/05081610_G_S14.pdf
footprint LT-S-14_N (SOIC, 14-Leads, Body 8.65x3.90mm, Pitch 1.27mm, IPC Medium Density)
footprint LT-S-14_L (SOIC, 14-Leads, Body 8.65x3.90mm, Pitch 1.27mm, IPC High Density)
footprint LT-S-14_M (SOIC, 14-Leads, Body 8.65x3.90mm, Pitch 1.27mm, IPC Low Density)
part A pins: 1 -IN A (in), 2 +IN A (in), 13 OUT A (hiz), 14 ~{EN} A (in)
part B pins: 6 +IN B (in), 7 -IN B (in), 8 ~{EN} B (in), 9 OUT B (hiz)
part C pins: 3 GND (power), 4 GND (power), 5 GND (power), 10 V- (power), 11 GND (power), 12 V+ (power)

## LT1259IS#TR
designator U?
Dual Channel, High Voltage CFA Operational Amplifier, 130 MHz Typical GBW, 1600 V/us Typical SR, 4 to 36 V, 14-Pin SOIC (S-14), Industrial, Reel; Linear Technology Part Number: LT1259; Manufacturer: Linear Technology; PartNumber: LT1259IS#TR; Channels (#): 2; GBW (MHz) Typical: 130; Is (mA) Typical: 5; SR (V/us) Typical: 1600; Vs Max (V): 36; Vs Min (V): 4; DatasheetVersion: Rev. A; PackageVersion: Rev G; PackageReference: LT-S-14; PackageDescription: 14-Lead Plastic Small Outline, Body 8.65 x 3.90 mm, Pitch 1.27 mm; Supplier 1: Digi-Key; Supplier Part Number 1: LT1259IS#TR-ND; Packing: Reel; Type: CFA; Vos (mV) Typical: 2; Mounting Technology: Surface Mount; ComponentLink1Description: Manufacturer URL; ComponentLink1URL: http://www.linear.com/; ComponentLink2Description: Datasheet; ComponentLink2URL: http://cds.linear.com/docs/en/datasheet/12596fas.pdf; ComponentLink3Description: Package Specification; ComponentLink3URL: http://cds.linear.com/docs/en/packaging/05081610_G_S14.pdf
footprint LT-S-14_N (SOIC, 14-Leads, Body 8.65x3.90mm, Pitch 1.27mm, IPC Medium Density)
footprint LT-S-14_L (SOIC, 14-Leads, Body 8.65x3.90mm, Pitch 1.27mm, IPC High Density)
footprint LT-S-14_M (SOIC, 14-Leads, Body 8.65x3.90mm, Pitch 1.27mm, IPC Low Density)
part A pins: 1 -IN A (in), 2 +IN A (in), 13 OUT A (hiz), 14 ~{EN} A (in)
part B pins: 6 +IN B (in), 7 -IN B (in), 8 ~{EN} B (in), 9 OUT B (hiz)
part C pins: 3 GND (power), 4 GND (power), 5 GND (power), 10 V- (power), 11 GND (power), 12 V+ (power)

## LT1259IS#TRPBF
designator U?
Dual Channel, High Voltage CFA Operational Amplifier, 130 MHz Typical GBW, 1600 V/us Typical SR, 4 to 36 V, 14-Pin SOIC (S-14), Industrial, Pb-Free, Reel; Linear Technology Part Number: LT1259; Manufacturer: Linear Technology; PartNumber: LT1259IS#TRPBF; Channels (#): 2; GBW (MHz) Typical: 130; Is (mA) Typical: 5; SR (V/us) Typical: 1600; Vs Max (V): 36; Vs Min (V): 4; DatasheetVersion: Rev. A; PackageVersion: Rev G; PackageReference: LT-S-14; PackageDescription: 14-Lead Plastic Small Outline, Body 8.65 x 3.90 mm, Pitch 1.27 mm; Supplier 1: Digi-Key; Supplier Part Number 1: LT1259IS#TRPBF-ND; Packing: Reel; RoHS: Pb-Free; Type: CFA; Vos (mV) Typical: 2; Mounting Technology: Surface Mount; ComponentLink1Description: Manufacturer URL; ComponentLink1URL: http://www.linear.com/; ComponentLink2Description: Datasheet; ComponentLink2URL: http://cds.linear.com/docs/en/datasheet/12596fas.pdf; ComponentLink3Description: Package Specification; ComponentLink3URL: http://cds.linear.com/docs/en/packaging/05081610_G_S14.pdf
footprint LT-S-14_N (SOIC, 14-Leads, Body 8.65x3.90mm, Pitch 1.27mm, IPC Medium Density)
footprint LT-S-14_L (SOIC, 14-Leads, Body 8.65x3.90mm, Pitch 1.27mm, IPC High Density)
footprint LT-S-14_M (SOIC, 14-Leads, Body 8.65x3.90mm, Pitch 1.27mm, IPC Low Density)
part A pins: 1 -IN A (in), 2 +IN A (in), 13 OUT A (hiz), 14 ~{EN} A (in)
part B pins: 6 +IN B (in), 7 -IN B (in), 8 ~{EN} B (in), 9 OUT B (hiz)
part C pins: 3 GND (power), 4 GND (power), 5 GND (power), 10 V- (power), 11 GND (power), 12 V+ (power)

## LT1351CMS8
designator U?
Single Channel, High Speed Precision Operational Amplifier, 3 MHz Typical GBW, 200 V/us Typical SR, 5 to 36 V, 8-Pin SOP (MS8-8), Commerical; Linear Technology Part Number: LT1351; Manufacturer: Linear Technology; PartNumber: LT1351CMS8; Channels (#): 1; GBW (MHz) Typical: 3; Is (mA) Typical: 0.25; SR (V/us) Typical: 200; Vos (mV) Typical: 0.2; Vs Max (V): 36; Vs Min (V): 5; DatasheetVersion: Rev. A; PackageVersion: Rev G; PackageReference: LT-MS8-8; PackageDescription: 8-Lead Plastic Small Outline, Body 3.9 x 4.9 mm, Pitch 1.27 mm; Supplier 1: Digi-Key; Supplier Part Number 1: LT1351CMS8-ND; Type: VFB; Mounting Technology: Surface Mount; ComponentLink1Description: Manufacturer URL; ComponentLink1URL: http://www.linear.com/; ComponentLink2Description: Datasheet; ComponentLink2URL: http://cds.linear.com/docs/en/datasheet/1351fa.pdf; ComponentLink3Description: Package Specification; ComponentLink3URL: http://cds.linear.com/docs/en/packaging/05081610_G_SO8.pdf
footprint LT-MS8-8_N (SOP, 8-Leads, Body 3x3mm, Pitch 0.65mm, IPC Medium Density)
footprint LT-MS8-8_L (SOP, 8-Leads, Body 3x3mm, Pitch 0.65mm, IPC High Density)
footprint LT-MS8-8_M (SOP, 8-Leads, Body 3x3mm, Pitch 0.65mm, IPC Low Density)
pins: 1 NULL (in), 2 -IN (in), 3 +IN (in), 4 V- (power), 5 SHDN (in), 6 VOUT (out), 7 V+ (power), 8 NULL (in)

## LT1351CMS8#PBF
designator U?
Single Channel, High Speed Precision Operational Amplifier, 3 MHz Typical GBW, 200 V/us Typical SR, 5 to 36 V, 8-Pin SOP (MS8-8), Commerical, Pb-Free; Linear Technology Part Number: LT1351; Manufacturer: Linear Technology; PartNumber: LT1351CMS8#PBF; Channels (#): 1; GBW (MHz) Typical: 3; Is (mA) Typical: 0.25; SR (V/us) Typical: 200; Vos (mV) Typical: 0.2; Vs Max (V): 36; Vs Min (V): 5; DatasheetVersion: Rev. A; PackageVersion: Rev G; PackageReference: LT-MS8-8; PackageDescription: 8-Lead Plastic Small Outline, Body 3.9 x 4.9 mm, Pitch 1.27 mm; Supplier 1: Digi-Key; Supplier Part Number 1: LT1351CMS8#PBF-ND; Supplier 2: Newark; Supplier Part Number 2: 57M3399; RoHS: Pb-Free; Type: VFB; Mounting Technology: Surface Mount; ComponentLink1Description: Manufacturer URL; ComponentLink1URL: http://www.linear.com/; ComponentLink2Description: Datasheet; ComponentLink2URL: http://cds.linear.com/docs/en/datasheet/1351fa.pdf; ComponentLink3Description: Package Specification; ComponentLink3URL: http://cds.linear.com/docs/en/packaging/05081610_G_SO8.pdf
footprint LT-MS8-8_N (SOP, 8-Leads, Body 3x3mm, Pitch 0.65mm, IPC Medium Density)
footprint LT-MS8-8_L (SOP, 8-Leads, Body 3x3mm, Pitch 0.65mm, IPC High Density)
footprint LT-MS8-8_M (SOP, 8-Leads, Body 3x3mm, Pitch 0.65mm, IPC Low Density)
pins: 1 NULL (in), 2 -IN (in), 3 +IN (in), 4 V- (power), 5 SHDN (in), 6 VOUT (out), 7 V+ (power), 8 NULL (in)

## LT1351CMS8#TR
designator U?
Single Channel, High Speed Precision Operational Amplifier, 3 MHz Typical GBW, 200 V/us Typical SR, 5 to 36 V, 8-Pin SOP (MS8-8), Commerical, Reel; Linear Technology Part Number: LT1351; Manufacturer: Linear Technology; PartNumber: LT1351CMS8#TR; Channels (#): 1; GBW (MHz) Typical: 3; Is (mA) Typical: 0.25; SR (V/us) Typical: 200; Vos (mV) Typical: 0.2; Vs Max (V): 36; Vs Min (V): 5; DatasheetVersion: Rev. A; PackageVersion: Rev G; PackageReference: LT-MS8-8; PackageDescription: 8-Lead Plastic Small Outline, Body 3.9 x 4.9 mm, Pitch 1.27 mm; Supplier 1: Digi-Key; Supplier Part Number 1: LT1351CMS8#TR-ND; Packing: Reel; Type: VFB; Mounting Technology: Surface Mount; ComponentLink1Description: Manufacturer URL; ComponentLink1URL: http://www.linear.com/; ComponentLink2Description: Datasheet; ComponentLink2URL: http://cds.linear.com/docs/en/datasheet/1351fa.pdf; ComponentLink3Description: Package Specification; ComponentLink3URL: http://cds.linear.com/docs/en/packaging/05081610_G_SO8.pdf
footprint LT-MS8-8_N (SOP, 8-Leads, Body 3x3mm, Pitch 0.65mm, IPC Medium Density)
footprint LT-MS8-8_L (SOP, 8-Leads, Body 3x3mm, Pitch 0.65mm, IPC High Density)
footprint LT-MS8-8_M (SOP, 8-Leads, Body 3x3mm, Pitch 0.65mm, IPC Low Density)
pins: 1 NULL (in), 2 -IN (in), 3 +IN (in), 4 V- (power), 5 SHDN (in), 6 VOUT (out), 7 V+ (power), 8 NULL (in)

## LT1351CMS8#TRPBF
designator U?
Single Channel, High Speed Precision Operational Amplifier, 3 MHz Typical GBW, 200 V/us Typical SR, 5 to 36 V, 8-Pin SOP (MS8-8), Commerical, Pb-Free, Reel; Linear Technology Part Number: LT1351; Manufacturer: Linear Technology; PartNumber: LT1351CMS8#TRPBF; Channels (#): 1; GBW (MHz) Typical: 3; Is (mA) Typical: 0.25; SR (V/us) Typical: 200; Vos (mV) Typical: 0.2; Vs Max (V): 36; Vs Min (V): 5; DatasheetVersion: Rev. A; PackageVersion: Rev G; PackageReference: LT-MS8-8; PackageDescription: 8-Lead Plastic Small Outline, Body 3.9 x 4.9 mm, Pitch 1.27 mm; Supplier 1: Digi-Key; Supplier Part Number 1: LT1351CMS8#TRPBF-ND; Supplier 2: Newark; Supplier Part Number 2: 57M3401; Packing: Reel; RoHS: Pb-Free; Type: VFB; Mounting Technology: Surface Mount; ComponentLink1Description: Manufacturer URL; ComponentLink1URL: http://www.linear.com/; ComponentLink2Description: Datasheet; ComponentLink2URL: http://cds.linear.com/docs/en/datasheet/1351fa.pdf; ComponentLink3Description: Package Specification; ComponentLink3URL: http://cds.linear.com/docs/en/packaging/05081610_G_SO8.pdf
footprint LT-MS8-8_N (SOP, 8-Leads, Body 3x3mm, Pitch 0.65mm, IPC Medium Density)
footprint LT-MS8-8_L (SOP, 8-Leads, Body 3x3mm, Pitch 0.65mm, IPC High Density)
footprint LT-MS8-8_M (SOP, 8-Leads, Body 3x3mm, Pitch 0.65mm, IPC Low Density)
pins: 1 NULL (in), 2 -IN (in), 3 +IN (in), 4 V- (power), 5 SHDN (in), 6 VOUT (out), 7 V+ (power), 8 NULL (in)

## LT1351CN8
designator U?
Single Channel, High Speed Precision Operational Amplifier, 3 MHz Typical GBW, 200 V/us Typical SR, 5 to 36 V, 8-Pin DIP (N8-8), Commerical; Linear Technology Part Number: LT1351; Manufacturer: Linear Technology; PartNumber: LT1351CN8; Channels (#): 1; GBW (MHz) Typical: 3; Is (mA) Typical: 0.25; SR (V/us) Typical: 200; Vos (mV) Typical: 0.2; Vs Max (V): 36; Vs Min (V): 5; DatasheetVersion: Rev. A; PackageVersion: Rev I; PackageReference: LT-N8-8; PackageDescription: 8-Lead PDIP, Body 10.16 x 6.48 mm, Pitch 2.54 mm; Supplier 1: Digi-Key; Supplier Part Number 1: LT1351CN8-ND; Type: VFB; Mounting Technology: Surface Mount; ComponentLink1Description: Manufacturer URL; ComponentLink1URL: http://www.linear.com/; ComponentLink2Description: Datasheet; ComponentLink2URL: http://cds.linear.com/docs/en/datasheet/1351fa.pdf; ComponentLink3Description: Package Specification; ComponentLink3URL: http://cds.linear.com/docs/en/packaging/05081510_I_N8.pdf
footprint LT-N8-8 (DIP, 8-Leads, Body 10.16x6.48mm, Pitch 2.54mm)
pins: 1 NULL (in), 2 -IN (in), 3 +IN (in), 4 V- (power), 5 SHDN (in), 6 VOUT (out), 7 V+ (power), 8 NULL (in)

## LT1351CN8#PBF
designator U?
Single Channel, High Speed Precision Operational Amplifier, 3 MHz Typical GBW, 200 V/us Typical SR, 5 to 36 V, 8-Pin DIP (N8-8), Commerical, Pb-Free; Linear Technology Part Number: LT1351; Manufacturer: Linear Technology; PartNumber: LT1351CN8#PBF; Channels (#): 1; GBW (MHz) Typical: 3; Is (mA) Typical: 0.25; SR (V/us) Typical: 200; Vos (mV) Typical: 0.2; Vs Max (V): 36; Vs Min (V): 5; DatasheetVersion: Rev. A; PackageVersion: Rev I; PackageReference: LT-N8-8; PackageDescription: 8-Lead PDIP, Body 10.16 x 6.48 mm, Pitch 2.54 mm; Supplier 1: Digi-Key; Supplier Part Number 1: LT1351CN8#PBF-ND; RoHS: Pb-Free; Type: VFB; Mounting Technology: Through Hole; ComponentLink1Description: Manufacturer URL; ComponentLink1URL: http://www.linear.com/; ComponentLink2Description: Datasheet; ComponentLink2URL: http://cds.linear.com/docs/en/datasheet/1351fa.pdf; ComponentLink3Description: Package Specification; ComponentLink3URL: http://cds.linear.com/docs/en/packaging/05081510_I_N8.pdf
footprint LT-N8-8 (DIP, 8-Leads, Body 10.16x6.48mm, Pitch 2.54mm)
pins: 1 NULL (in), 2 -IN (in), 3 +IN (in), 4 V- (power), 5 SHDN (in), 6 VOUT (out), 7 V+ (power), 8 NULL (in)

## LT1351CS8
designator U?
Single Channel, High Speed Precision Operational Amplifier, 3 MHz Typical GBW, 200 V/us Typical SR, 5 to 36 V, 8-Pin SOIC (S8-8), Commerical; Linear Technology Part Number: LT1351; Manufacturer: Linear Technology; PartNumber: LT1351CS8; Channels (#): 1; GBW (MHz) Typical: 3; Is (mA) Typical: 0.25; SR (V/us) Typical: 200; Vos (mV) Typical: 0.2; Vs Max (V): 36; Vs Min (V): 5; DatasheetVersion: Rev. A; PackageVersion: Rev G; PackageReference: LT-S8-8; PackageDescription: 8-Pin Plastic Small Outline, Body 4.9 x 3.9 mm, Pitch 1.27 mm; Supplier 1: Digi-Key; Supplier Part Number 1: LT1351CS8-ND; Type: VFB; Mounting Technology: Surface Mount; ComponentLink1Description: Manufacturer URL; ComponentLink1URL: http://www.linear.com/; ComponentLink2Description: Datasheet; ComponentLink2URL: http://cds.linear.com/docs/en/datasheet/1351fa.pdf; ComponentLink3Description: Package Specification; ComponentLink3URL: http://cds.linear.com/docs/en/packaging/05081610_G_SO8.pdf
footprint LT-S8-8_N (SOIC, 8-Leads, Body 4.9x3.9mm, Pitch 1.27mm, IPC Medium Density)
footprint LT-S8-8_L (SOIC, 8-Leads, Body 4.9x3.9mm, Pitch 1.27mm, IPC High Density)
footprint LT-S8-8_M (SOIC, 8-Leads, Body 4.9x3.9mm, Pitch 1.27mm, IPC Low Density)
pins: 1 NULL (in), 2 -IN (in), 3 +IN (in), 4 V- (power), 5 SHDN (in), 6 VOUT (out), 7 V+ (power), 8 NULL (in)

## LT1351CS8#PBF
designator U?
Single Channel, High Speed Precision Operational Amplifier, 3 MHz Typical GBW, 200 V/us Typical SR, 5 to 36 V, 8-Pin SOIC (S8-8), Commerical, Pb-Free; Linear Technology Part Number: LT1351; Manufacturer: Linear Technology; PartNumber: LT1351CS8#PBF; Channels (#): 1; GBW (MHz) Typical: 3; Is (mA) Typical: 0.25; SR (V/us) Typical: 200; Vos (mV) Typical: 0.2; Vs Max (V): 36; Vs Min (V): 5; DatasheetVersion: Rev. A; PackageVersion: Rev G; PackageReference: LT-S8-8; PackageDescription: 8-Pin Plastic Small Outline, Body 4.9 x 3.9 mm, Pitch 1.27 mm; Supplier 1: Digi-Key; Supplier Part Number 1: LT1351CS8#PBF-ND; Supplier 2: Farnell; Supplier Part Number 2: 2238150; Supplier 3: Newark; Supplier Part Number 3: 57M3405; RoHS: Pb-Free; Type: VFB; Mounting Technology: Surface Mount; ComponentLink1Description: Manufacturer URL; ComponentLink1URL: http://www.linear.com/; ComponentLink2Description: Datasheet; ComponentLink2URL: http://cds.linear.com/docs/en/datasheet/1351fa.pdf; ComponentLink3Description: Package Specification; ComponentLink3URL: http://cds.linear.com/docs/en/packaging/05081610_G_SO8.pdf
footprint LT-S8-8_N (SOIC, 8-Leads, Body 4.9x3.9mm, Pitch 1.27mm, IPC Medium Density)
footprint LT-S8-8_L (SOIC, 8-Leads, Body 4.9x3.9mm, Pitch 1.27mm, IPC High Density)
footprint LT-S8-8_M (SOIC, 8-Leads, Body 4.9x3.9mm, Pitch 1.27mm, IPC Low Density)
pins: 1 NULL (in), 2 -IN (in), 3 +IN (in), 4 V- (power), 5 SHDN (in), 6 VOUT (out), 7 V+ (power), 8 NULL (in)

## LT1351CS8#TR
designator U?
Single Channel, High Speed Precision Operational Amplifier, 3 MHz Typical GBW, 200 V/us Typical SR, 5 to 36 V, 8-Pin SOIC (S8-8), Commerical, Reel; Linear Technology Part Number: LT1351; Manufacturer: Linear Technology; PartNumber: LT1351CS8#TR; Channels (#): 1; GBW (MHz) Typical: 3; Is (mA) Typical: 0.25; SR (V/us) Typical: 200; Vos (mV) Typical: 0.2; Vs Max (V): 36; Vs Min (V): 5; DatasheetVersion: Rev. A; PackageVersion: Rev G; PackageReference: LT-S8-8; PackageDescription: 8-Pin Plastic Small Outline, Body 4.9 x 3.9 mm, Pitch 1.27 mm; Supplier 1: Digi-Key; Supplier Part Number 1: LT1351CS8#TR-ND; Packing: Reel; Type: VFB; Mounting Technology: Surface Mount; ComponentLink1Description: Manufacturer URL; ComponentLink1URL: http://www.linear.com/; ComponentLink2Description: Datasheet; ComponentLink2URL: http://cds.linear.com/docs/en/datasheet/1351fa.pdf; ComponentLink3Description: Package Specification; ComponentLink3URL: http://cds.linear.com/docs/en/packaging/05081610_G_SO8.pdf
footprint LT-S8-8_N (SOIC, 8-Leads, Body 4.9x3.9mm, Pitch 1.27mm, IPC Medium Density)
footprint LT-S8-8_L (SOIC, 8-Leads, Body 4.9x3.9mm, Pitch 1.27mm, IPC High Density)
footprint LT-S8-8_M (SOIC, 8-Leads, Body 4.9x3.9mm, Pitch 1.27mm, IPC Low Density)
pins: 1 NULL (in), 2 -IN (in), 3 +IN (in), 4 V- (power), 5 SHDN (in), 6 VOUT (out), 7 V+ (power), 8 NULL (in)